# Altium schematic symbol library con-phoenix-254.SCHLIB: 10 symbols
Pins are listed as number, name and electrical type; pins without a type are passive.

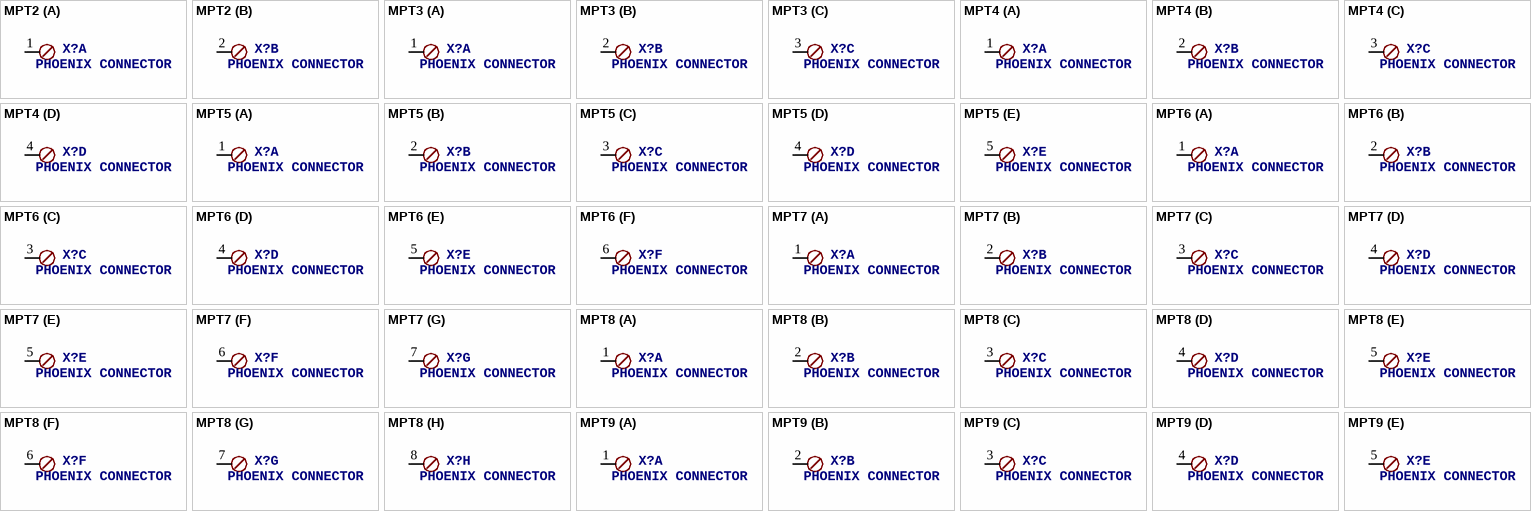
[diagram p0: symbols MPT2 to MPT9]

## MPT2
designator X?, comment PHOENIX CONNECTOR
OC_FARNELL: unknown; OC_NEWARK: unknown
footprint 2POL254
part A pins: 1
part B pins: 2 1

## MPT3
designator X?, comment PHOENIX CONNECTOR
OC_FARNELL: unknown; OC_NEWARK: unknown
footprint 3POL254
part A pins: 1
part B pins: 2 1
part C pins: 3 1

## MPT4
designator X?, comment PHOENIX CONNECTOR
OC_FARNELL: unknown; OC_NEWARK: unknown
footprint 4POL254
part A pins: 1
part B pins: 2 1
part C pins: 3 1
part D pins: 4 1

## MPT5
designator X?, comment PHOENIX CONNECTOR
OC_FARNELL: unknown; OC_NEWARK: unknown
footprint 5POL254
part A pins: 1
part B pins: 2 1
part C pins: 3 1
part D pins: 4 1
part E pins: 5 1

## MPT6
designator X?, comment PHOENIX CONNECTOR
OC_FARNELL: unknown; OC_NEWARK: unknown
footprint 6POL254
part A pins: 1
part B pins: 2 1
part C pins: 3 1
part D pins: 4 1
part E pins: 5 1
part F pins: 6 1

## MPT7
designator X?, comment PHOENIX CONNECTOR
OC_FARNELL: unknown; OC_NEWARK: unknown
footprint 7POL254
part A pins: 1
part B pins: 2 1
part C pins: 3 1
part D pins: 4 1
part E pins: 5 1
part F pins: 6 1
part G pins: 7 1

## MPT8
designator X?, comment PHOENIX CONNECTOR
OC_FARNELL: unknown; OC_NEWARK: unknown
footprint 8POL254
part A pins: 1
part B pins: 2 1
part C pins: 3 1
part D pins: 4 1
part E pins: 5 1
part F pins: 6 1
part G pins: 7 1
part H pins: 8 1

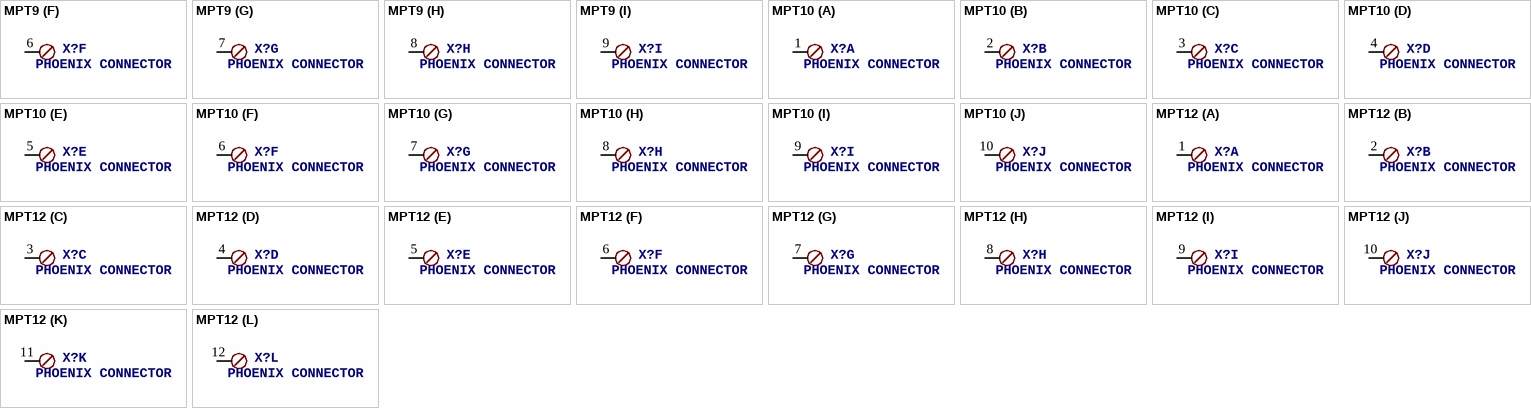
[diagram p1: symbols MPT9 to MPT12]

## MPT9
designator X?, comment PHOENIX CONNECTOR
OC_FARNELL: unknown; OC_NEWARK: unknown
footprint 9POL254
part A pins: 1
part B pins: 2 1
part C pins: 3 1
part D pins: 4 1
part E pins: 5 1
part F pins: 6 1
part G pins: 7 1
part H pins: 8 1
part I pins: 9 1

## MPT10
designator X?, comment PHOENIX CONNECTOR
OC_FARNELL: unknown; OC_NEWARK: unknown
footprint 10POL254
part A pins: 1
part B pins: 2 1
part C pins: 3 1
part D pins: 4 1
part E pins: 5 1
part F pins: 6 1
part G pins: 7 1
part H pins: 8 1
part I pins: 9 1
part J pins: 10 1

## MPT12
designator X?, comment PHOENIX CONNECTOR
OC_FARNELL: unknown; OC_NEWARK: unknown
footprint 12POL254
part A pins: 1
part B pins: 2 1
part C pins: 3 1
part D pins: 4 1
part E pins: 5 1
part F pins: 6 1
part G pins: 7 1
part H pins: 8 1
part I pins: 9 1
part J pins: 10 1
part K pins: 11 1
part L pins: 12 1